# Altium footprint library CNC_3220-10-0300-00.PcbLib: 1 footprints
Each footprint in its own frame and in the unit in brackets; x right, y up, seen from the top. Pads: shape width x height; smd on the part's side, far side on the other; paste and mask are expansions set on the pad; w line width, h text height; cw(c..) or ccw(c..) is an arc to the next point about the centre after c.
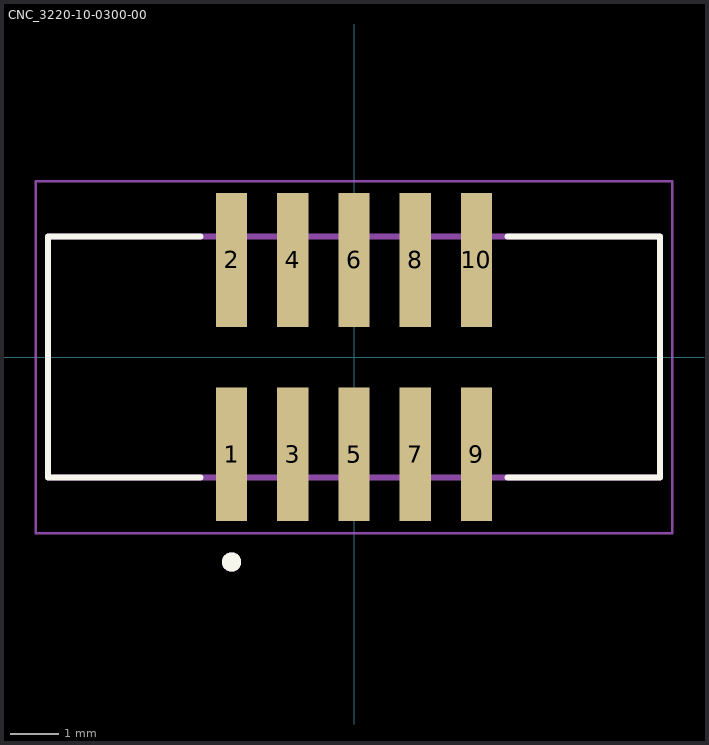
[diagram p0: the footprint, top view; thin cyan lines are the x and y axes]

## CNC_3220-10-0300-00 [mm]
height 5.55
pads (10):
  rect 0.65x2.77 smd: 1(-2.54,-2.015) 2(-2.54,2.015) 3(-1.27,-2.015) 4(-1.27,2.015) 5(0,-2.015) 6(0,2.015) 7(1.27,-2.015) 8(1.27,2.015) 9(2.54,-2.015) 10(2.54,2.015)
Top Overlay:
  circle w0.2: c-2.54,-4.25 r0.1
  lines w0.127: -3.185,-2.5 -6.35,-2.5 -6.35,2.5 -3.185,2.5 ; 3.185,-2.5 6.35,-2.5 6.35,2.5 3.185,2.5
Mechanical 13:
  circle w0.2: c-2.54,-4.25 r0.1
  lines w0.127: -6.35,-2.5 6.35,-2.5 6.35,2.5 -6.35,2.5 -6.35,-2.5
Mechanical 15:
  lines w0.05: -6.6,-3.65 -6.6,3.65 6.6,3.65 6.6,-3.65 -6.6,-3.65
3D body "step_temp.STEP": height 5.6, standoff 0, extent -6.325,-2.75 6.325,2.75